# Altium footprint library Capacitors.PcbLib: 8 footprints
Each footprint in its own frame and in the unit in brackets; x right, y up, seen from the top. Pads: shape width x height; smd on the part's side, far side on the other; paste and mask are expansions set on the pad; w line width, h text height; cw(c..) or ccw(c..) is an arc to the next point about the centre after c.
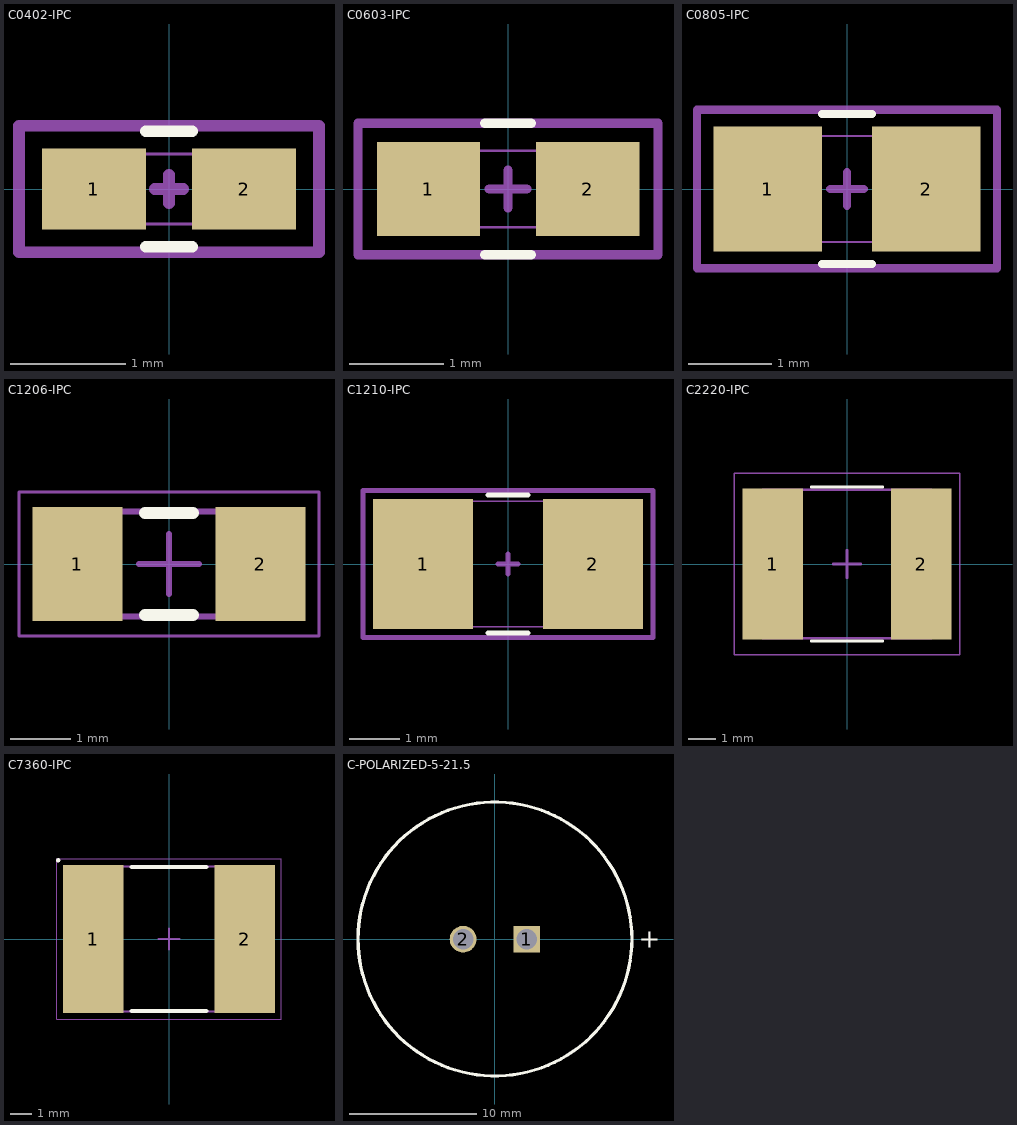
[diagram p0: the footprints below, top view; thin cyan lines are the x and y axes]

## C0402-IPC [mm]
pads (2):
  rect 0.9x0.7 smd: 1(-0.65,0) 2(0.65,0)
Top Overlay:
  lines w0.1: -0.2,-0.5 0.2,-0.5 ; -0.2,0.5 0.2,0.5
Top Assembly Dwg:
  text ".Designator" at -1.321,-0.229 h0.25
Top Dimensions and Assy Info:
  lines w0.025: -0.508,-0.305 -0.508,0.305 0.508,0.305 0.508,-0.305 -0.508,-0.305
Mechanical 15:
  lines w0.1: -0.125,0 0.125,0 ; 0,-0.125 0,0.125 ; -1.3,-0.55 -1.3,0.55 1.3,0.55 1.3,-0.55 -1.3,-0.55
3D body "CAP0402.stp": height 0.2, standoff 0, extent -0.5,-0.3 0.5,0.3

## C0603-IPC [mm]
pads (2):
  rect 1.1x1 smd mask+0.15: 1(-0.85,0) 2(0.85,0)
Top Overlay:
  lines w0.1: -0.25,-0.7 0.25,-0.7 ; -0.25,0.7 0.25,0.7
Top Dimensions and Assy Info:
  lines w0.025: -0.813,-0.406 0.813,-0.406 0.813,0.406 -0.813,0.406 -0.813,-0.406
Mechanical 15:
  lines w0.1: -0.2,0 0.2,0 ; 0,-0.2 0,0.2 ; -1.6,-0.7 -1.6,0.7 1.6,0.7 1.6,-0.7 -1.6,-0.7
3D body "CAP0603.stp": height 0.3, standoff 0, extent -0.8,-0.4 0.8,0.4

## C0805-IPC [mm]
pads (2):
  rect 1.3x1.5 smd: 1(-0.95,0) 2(0.95,0)
Top Overlay:
  lines w0.1: -0.3,-0.9 0.3,-0.9 ; -0.3,0.9 0.3,0.9
Top Assembly Dwg:
  text ".Designator" at -1.956,-0.279 h0.38
Top Dimensions and Assy Info:
  lines w0.025: -1.016,-0.635 1.016,-0.635 1.016,0.635 -1.016,0.635 -1.016,-0.635
Mechanical 15:
  lines w0.1: -0.2,0 0.2,0 ; 0,-0.2 0,0.2 ; -1.8,-0.95 -1.8,0.95 1.8,0.95 1.8,-0.95 -1.8,-0.95
3D body "CAP0805.stp": height 0.78, standoff 0, extent -1,-0.625 1,0.625

## C1206-IPC [mm] "Chip Capacitor, 2-Leads, Body 3.20x1.60mm, IPC Low Density"
height 0.71
pads (2):
  rect 1.5x1.9 smd: 1(-1.525,0) 2(1.525,0)
Top Overlay:
  lines w0.2: -0.4,-0.85 0.4,-0.85 ; -0.4,0.85 0.4,0.85
3D Bodies:
  lines w0.1: -1.675,-0.875 -1.675,0.875 1.675,0.875 1.675,-0.875 -1.675,-0.875
Mechanical 15:
  lines w0.05: -2.5,-1.2 -2.5,1.2 2.5,1.2 2.5,-1.2 -2.5,-1.2
  lines w0.1: -0.5,0 0.5,0 ; 0,-0.5 0,0.5
3D body "C1206.step": height 0.71, standoff 0, extent -1.675,-0.875 1.675,0.875

## C1210-IPC [mm] "Chip Capacitor, Body 3.2x2.5mm, IPC High Density"
height 1.3
pads (2):
  rect 2x2.6 smd: 1(-1.7,0) 2(1.7,0)
Top Overlay:
  lines w0.1: -0.4,-1.375 0.4,-1.375 ; -0.4,1.375 0.4,1.375
Top Assembly Dwg:
  lines w0.1: -2.9,-1.473 2.9,-1.473 2.9,1.473 -2.9,1.473 -2.9,-1.473
  text ".Designator" at -1.956,-0.279 h0.38
Top Dimensions and Assy Info:
  lines w0.025: -1.6,-1.25 1.6,-1.25 1.6,1.25 -1.6,1.25 -1.6,-1.25
Mechanical 15:
  lines w0.1: -0.2,0 0.2,0 ; 0,-0.2 0,0.2
3D body "CAP1210.stp": height 0.92, standoff -0.02, extent -1.6,-1.25 1.6,1.25

## C2220-IPC [mm] "Chip Capacitor, 2-Leads, Body 5.70x5.00mm, IPC Low Density"
height 2.8
pads (2):
  rect 2.2x5.5 smd: 1(-2.7,0) 2(2.7,0)
Top Overlay:
  lines w0.1: -1.3,-2.8 1.3,-2.8 ; -1.3,2.8 1.3,2.8
3D Bodies:
  lines w0.1: -3.05,-2.7 3.05,-2.7 3.05,2.7 -3.05,2.7 -3.05,-2.7
Mechanical 15:
  lines w0.05: -4.1,-3.3 4.1,-3.3 4.1,3.3 -4.1,3.3 -4.1,-3.3
  lines w0.1: -0.5,0 0.5,0 ; 0,-0.5 0,0.5
3D body: height 2.8, standoff 0, extent 2.25,-2.7 3.05,2.7
3D body: height 2.8, standoff 0, extent -3.05,-2.7 -2.25,2.7
3D body: height 2.8, standoff 0, extent -2.25,-2.7 2.25,2.7

## C7360-IPC [mm] "Chip Capacitor, 2-Leads, Body 9.12x6.80mm, IPC Medium Density"
height 2
pads (2):
  rect 2.85x6.95 smd: 1(-3.55,0) 2(3.55,0)
Top Overlay:
  circle w0.1: c-5.187,3.687 r0.05
  lines w0.2: -1.75,-3.375 1.75,-3.375 ; -1.75,3.375 1.75,3.375
3D Bodies:
  lines w0.1: -4.56,-3.4 -4.56,3.4 4.56,3.4 4.56,-3.4 -4.56,-3.4
Mechanical 15:
  lines w0.05: -5.25,-3.75 -5.25,3.75 5.25,3.75 5.25,-3.75 -5.25,-3.75
  lines w0.1: -0.5,0 0.5,0 ; 0,-0.5 0,0.5
3D body: height 2, standoff 0, extent -2.19,-3.4 2.19,3.4
3D body: height 2, standoff 0, extent -4.56,-3.4 -2.19,3.4
3D body: height 2, standoff 0, extent 2.19,-3.4 4.56,3.4

## C-POLARIZED-5-21.5 [mm] "Through-hole Supercapacitor"
height 8.85
pads (2):
  rect 2.1x2.1 hole 1.6: 1(2.5,-0.012)
  round 2.1 hole 1.6: 2(-2.5,-0.012)
Top Overlay:
  circle w0.254: c0,0 r10.75
  text "+" at 11.3,-0.7 h1.5